# Altium footprint library UM982.PcbLib: 1 footprints
Each footprint in its own frame and in the unit in brackets; x right, y up, seen from the top. Pads: shape width x height; smd on the part's side, far side on the other; paste and mask are expansions set on the pad; w line width, h text height; cw(c..) or ccw(c..) is an arc to the next point about the centre after c.
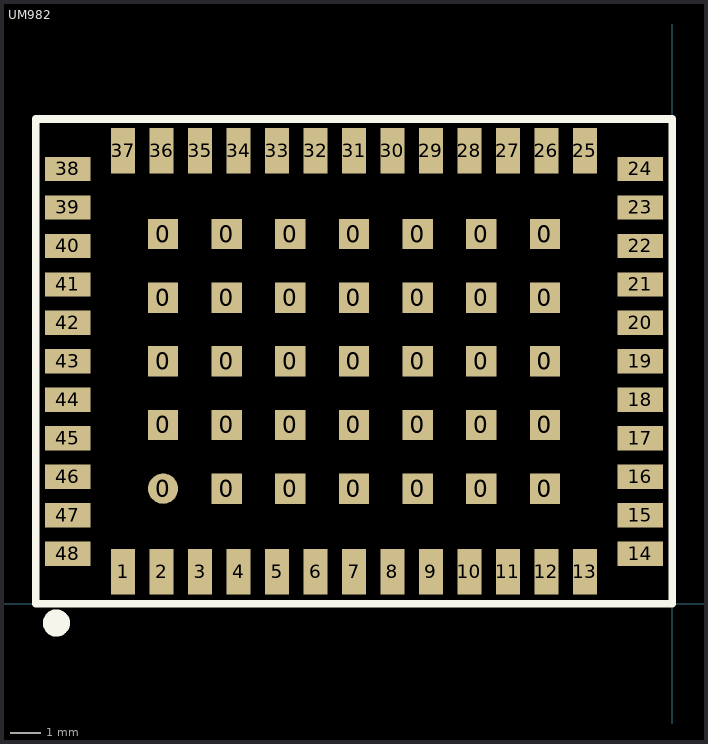
[diagram p0: the footprint, top view; thin cyan lines are the x and y axes]

## UM982 [mm]
pads (83):
  round 1 smd: 0(-16.8,3.8)
  rect 1x1 smd: 0(-16.8,5.9) 0(-16.8,8) 0(-16.8,10.1) 0(-16.8,12.2) 0(-14.7,3.8) 0(-14.7,5.9) 0(-14.7,8) 0(-14.7,10.1) 0(-14.7,12.2) 0(-12.6,3.8) 0(-12.6,5.9) 0(-12.6,8) 0(-12.6,10.1) 0(-12.6,12.2) 0(-10.5,3.8) 0(-10.5,5.9) 0(-10.5,8) 0(-10.5,10.1) 0(-10.5,12.2) 0(-8.4,3.8) 0(-8.4,5.9) 0(-8.4,8) 0(-8.4,10.1) 0(-8.4,12.2) 0(-6.3,3.8) 0(-6.3,5.9) 0(-6.3,8) 0(-6.3,10.1) 0(-6.3,12.2) 0(-4.2,3.8) 0(-4.2,5.9) 0(-4.2,8) 0(-4.2,10.1) 0(-4.2,12.2)
  rect 0.8x1.5 smd: 1(-18.12,1.05) 2(-16.85,1.05) 3(-15.58,1.05) 4(-14.31,1.05) 5(-13.04,1.05) 6(-11.77,1.05) 7(-10.5,1.05) 8(-9.23,1.05) 9(-7.96,1.05) 10(-6.69,1.05) 11(-5.42,1.05) 12(-4.15,1.05) 13(-2.88,1.05) 25(-2.88,14.95) 26(-4.15,14.95) 27(-5.42,14.95) 28(-6.69,14.95) 29(-7.96,14.95) 30(-9.23,14.95) 31(-10.5,14.95) 32(-11.77,14.95) 33(-13.04,14.95) 34(-14.31,14.95) 35(-15.58,14.95) 36(-16.85,14.95) 37(-18.12,14.95)
  rect 1.5x0.8 smd: 14(-1.05,1.65) 15(-1.05,2.92) 16(-1.05,4.19) 17(-1.05,5.46) 18(-1.05,6.73) 19(-1.05,8) 20(-1.05,9.27) 21(-1.05,10.54) 22(-1.05,11.81) 23(-1.05,13.08) 24(-1.05,14.35) 38(-19.95,14.35) 39(-19.95,13.08) 40(-19.95,11.81) 41(-19.95,10.54) 42(-19.95,9.27) 43(-19.95,8) 44(-19.95,6.73) 45(-19.95,5.46) 46(-19.95,4.19) 47(-19.95,2.92) 48(-19.95,1.65)
Top Overlay:
  circle w0.5: c-20.32,-0.635 r0.2
  lines w0.254: -21,0 0,0 0,16 -21,16 -21,0
3D body "UM982.stp": height 2.6, standoff 0, extent -20.955,0.001 0.045,16.001